# Altium schematic symbol library ADG1414BRUZ.SchLib: 1 symbol
Pins are listed as number, name and electrical type; pins without a type are passive.

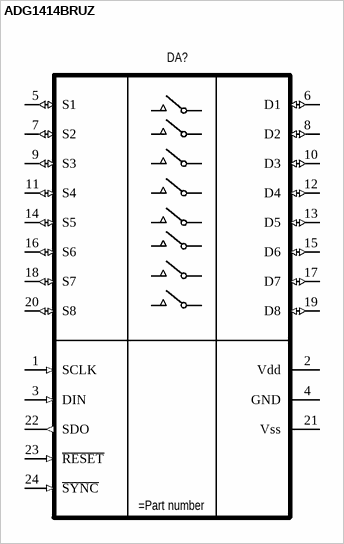
[diagram p0: symbol ADG1414BRUZ]

## ADG1414BRUZ
designator DA?
9.5 Ω RON, ±15 V/+12 V/±5 V iCMOS, Serially-Controlled Octal SPST Switches
pins: 1 SCLK (in), 2 Vdd (power), 3 DIN (in), 4 GND (power), 5 S1 (io), 6 D1 (io), 7 S2 (io), 8 D2 (io), 9 S3 (io), 10 D3 (io), 11 S4 (io), 12 D4 (io), 13 D5 (io), 14 S5 (io), 15 D6 (io), 16 S6 (io), 17 D7 (io), 18 S7 (io), 19 D8 (io), 20 S8 (io), 21 Vss (power), 22 SDO (out), 23 ~{RESET} (in), 24 ~{SYNC} (in)